# EAGLE library part LT3757 (library LT3757)
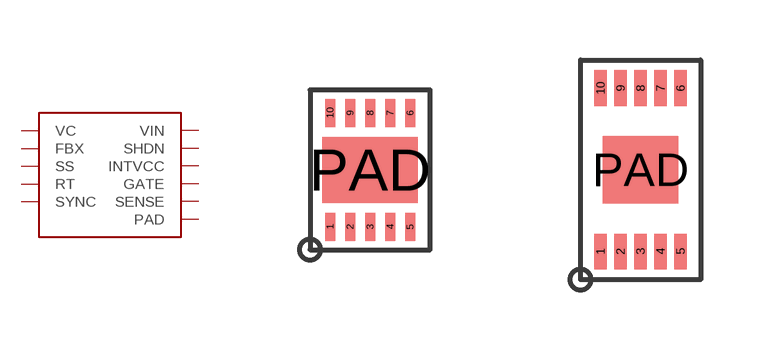
[diagram p0: symbol with the pads of DFN-10; footprints DFN-10, MSOP-10]

Designator prefix U

## LT3757DFN-10  [DFN-10]
1  VC
2  FBX
3  SS
4  RT
5  SYNC
6  SENSE
7  GATE
8  INTVCC
9  SHDN
10  VIN
PAD  PAD

## LT3757MSOP-10  [MSOP-10]
Pads as for DFN-10

## Footprint DFN-10 (pad centres in mm)
smd 0.25 x 0.7: 1 -1,-1.425; 2 -0.5,-1.425; 3 0,-1.425; 4 0.5,-1.425; 5 1,-1.425; 6 1,1.425; 7 0.5,1.425; 8 0,1.425; 9 -0.5,1.425; 10 -1,1.425
smd 2.38 x 1.65: PAD 0,0

## Footprint MSOP-10 (pad centres in mm)
smd 0.305 x 0.889: 1 -1,-2.045; 2 -0.5,-2.045; 3 0,-2.045; 4 0.5,-2.045; 5 1,-2.045; 6 1,2.045; 7 0.5,2.045; 8 0,2.045; 9 -0.5,2.045; 10 -1,2.045
smd 1.88 x 1.68: PAD 0,0